# Altium schematic symbol library PLWD_PartLib.SchLib: 10 symbols
Pins are listed as number, name and electrical type; pins without a type are passive.

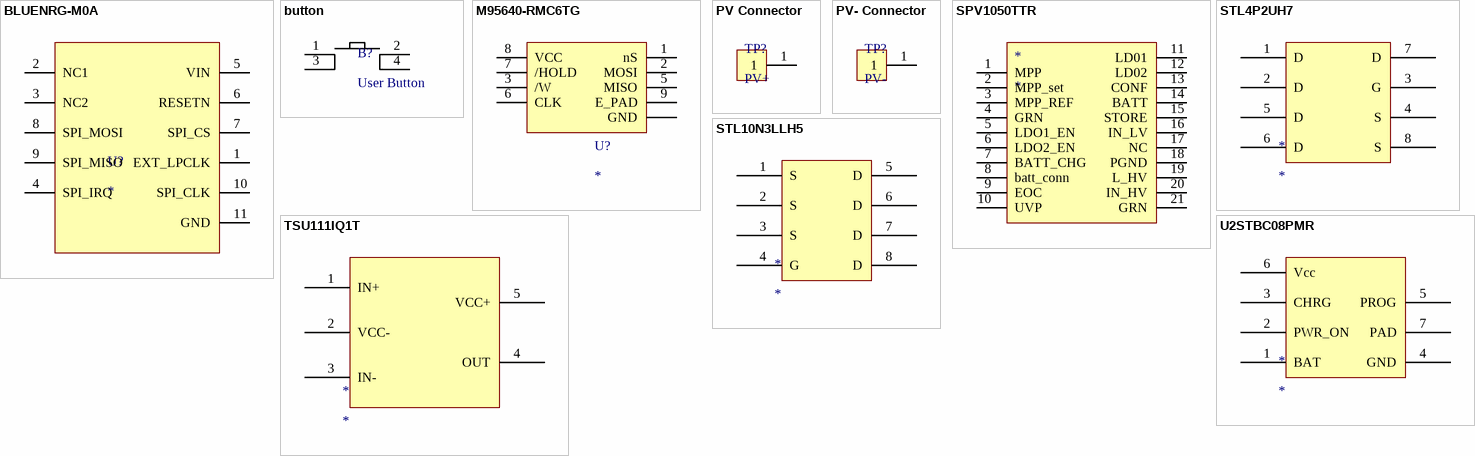
[diagram p0: symbols BLUENRG-M0A to U2STBC08PMR]

## BLUENRG-M0A
designator U?
Very low power network processor module for Bluetooth® low energy v4.2; Manufacturer: STMicroelectronics; Manufacturer Part Number: BLUENRG-M0A; Supplier 1: Digi-Key; RoHS: Yes; Category: RF Receivers, Transceivers; Pricing 1: 1=12.60000, 10=11.54700, 25=10.49720, 100=9.44740, 250=8.66008, 500=8.34996 (USD); RoHS Compliant: Yes; Supplier Part Number 1: 497-BLUENRG-M0ACT-ND
pins: 1 EXT_LPCLK, 2 NC1, 3 NC2, 4 SPI_IRQ, 5 VIN, 6 RESETN, 7 SPI_CS, 8 SPI_MOSI, 9 SPI_MISO, 10 SPI_CLK, 11 GND

## button
designator B?, comment User Button
pins: 1, 2, 3, 4

## M95640-RMC6TG
designator U?
M95640 Series 64 Kb (8K x 8) 5.5 V 20 MHz SMT Serial SPI bus EEPROM - UFDFPN-8; Manufacturer: STMicroelectronics; Manufacturer Part Number: M95640-RMC6TG; Density: 64Kb; Frequency: 20MHz; Interface: SPI,Serial,3-WIRE; Max Supply Voltage: 5.5V; Min Supply Voltage: 1.8V; Nominal Supply Current: 5mA; Access Time: 20ns; Organization: 8KX8; Write Protection: YES; Supplier 1: Digi-Key; RoHS: Yes; Category: EEPROM; Pricing 1: 1=0.54000, 10=0.53100, 25=0.49240, 50=0.49000, 100=0.43510, 250=0.42956, 500=0.42306, 1000=0.41176 (USD); Mount: Surface Mount; Number of Pins: 8; Min Operating Temperature: -40°C; Max Operating Temperature: 85°C; Packaging: Tape and Reel; Memory Type: EEPROM; Package Quantity: 5000; Access Time-Max: 20ns; Supply Current: 5mA; Max Frequency: 20MHz; Series: -; Programming Voltage: 5.5V; Radiation Hardening: No; RoHS Compliant: Yes; Lead Free: Lead Free; ComponentLink1URL: https://datasheet.ciiva.com/1912/cd00258834-1912079.pdf?src-supplier=Digi-Key; ComponentLink1Description: https://datasheet.ciiva.com/1912/cd00258834-1912079.pdf?src-supplier=Digi-Key; ComponentLink2URL: https://datasheet.ciiva.com/26910/getdatasheetpartid-755070-26910586.pdf?src-supplier=Verical; ComponentLink2Description: https://datasheet.ciiva.com/26910/getdatasheetpartid-755070-26910586.pdf?src-supplier=Verical; ComponentLink3URL: https://datasheet.ciiva.com/16622/cd00258834-16622988.pdf?src-supplier=Avnet+Europe; ComponentLink3Description: https://datasheet.ciiva.com/16622/cd00258834-16622988.pdf?src-supplier=Avnet+Europe; Supplier Part Number 1: 497-15780-1-ND
pins: 1 nS, 2 MOSI, 3 /W, 4 GND, 5 MISO, 6 CLK, 7 /HOLD, 8 VCC, 9 E_PAD

## PV Connector
designator TP?, comment PV+
pins: 1

## PV- Connector
designator TP?, comment PV-
pins: 1

## SPV1050TTR
designator *
Ultra low power energy harvester and battery charger with embedded MPPT and LDOs; Manufacturer: STMicroelectronics; Manufacturer Part Number: SPV1050TTR; Max Supply Voltage: 18V; Max Charge Current: 70mA; Battery Pack Voltage: 5.3V; Supplier 1: Digi-Key; RoHS: Yes; Category: Battery Management; Pricing 1: 1=3.91000, 10=3.51000, 25=3.31880, 100=2.87620, 250=2.72872, 500=2.44848, 1000=2.43512 (USD); Number of Pins: 20; Min Operating Temperature: -40°C; Max Operating Temperature: 85°C; Packaging: Tape and Reel; RoHS Compliant: Yes; ComponentLink1URL: http://www.farnell.com/datasheets/2291180.pdf?src-supplier=Farnell; ComponentLink1Description: http://www.farnell.com/datasheets/2291180.pdf?src-supplier=Farnell; ComponentLink2URL: http://www.mouser.com/ds/2/389/spv1050-974147.pdf?src-supplier=Mouser; ComponentLink2Description: http://www.mouser.com/ds/2/389/spv1050-974147.pdf?src-supplier=Mouser; ComponentLink3URL: http://www.st.com/content/ccc/resource/technical/document/datasheet/3e/91/0f/7c/32/3e/46/dd/DM00100984.pdf/files/DM00100984.pdf/jcr:content/translations/en.DM00100984.pdf?src-supplier=Digi-Key; ComponentLink3Description: http://www.st.com/content/ccc/resource/technical/document/datasheet/3e/91/0f/7c/32/3e/46/dd/DM00100984.pdf/files/DM00100984.pdf/jcr:content/translations/en.DM00100984.pdf?src-supplier=Digi-Key; ComponentLink4URL: http://www.st.com/web/en/resource/technical/document/datasheet/DM00100984.pdf?src-supplier=Avnet; ComponentLink4Description: http://www.st.com/web/en/resource/technical/document/datasheet/DM00100984.pdf?src-supplier=Avnet; ComponentLink5URL: http://www.farnell.com/datasheets/2291180.pdf?src-supplier=Newark; ComponentLink5Description: http://www.farnell.com/datasheets/2291180.pdf?src-supplier=Newark; Supplier Part Number 1: 497-15978-1-ND
pins: 1 MPP, 2 MPP_set, 3 MPP_REF, 4 GRN, 5 LDO1_EN, 6 LDO2_EN, 7 BATT_CHG, 8 batt_conn, 9 EOC, 10 UVP, 11 LD01, 12 LD02, 13 CONF, 14 BATT, 15 STORE, 16 IN_LV, 17 NC, 18 PGND, 19 L_HV, 20 IN_HV, 21 GRN

## STL4P2UH7
designator *
P-channel 20 V, 0.087 Ohm typ., 4 A STripFET H7 Power MOSFET in a PowerFLAT 2x2 package; Manufacturer: STMicroelectronics; Manufacturer Part Number: STL4P2UH7; Drain to Source Voltage (Vdss): 20V; Continuous Drain Current (ID): 4A; Rds On Max: 100mR; Input Capacitance: 510pF; Max Power Dissipation: 2.4W; Number of Elements: 1; Gate to Source Voltage (Vgs): 8V; Element Configuration: Single; Fall Time: 19ns; Rise Time: 21ns; Turn-Off Delay Time: 40ns; Turn-On Delay Time: 9ns; Supplier 1: Digi-Key; RoHS: Yes; Category: MOSFETs; Stock 1: 4; Pricing 1: 1=0.46000 (USD); Mount: Surface Mount; Number of Pins: 6; Min Operating Temperature: -55°C; Max Operating Temperature: 150°C; Packaging: Tape and Reel; Power Dissipation: 2.4W; Number of Channels: 1; Drain to Source Breakdown Voltage: 20V; Drain to Source Resistance: 100mR; Package Quantity: 3000; Lead Free: Lead Free; ComponentLink1URL: http://components.arrow.com/part/dataview/66338135S1070583N9185?src-supplier=Arrow+Electronics; ComponentLink1Description: http://components.arrow.com/part/dataview/66338135S1070583N9185?src-supplier=Arrow+Electronics; ComponentLink2URL: http://www.mouser.com/ds/2/389/stl4p2uh7-956091.pdf?src-supplier=Mouser; ComponentLink2Description: http://www.mouser.com/ds/2/389/stl4p2uh7-956091.pdf?src-supplier=Mouser; ComponentLink3URL: http://www.st.com/content/ccc/resource/technical/document/datasheet/group3/56/f4/8b/71/b1/01/42/91/DM00091043/files/DM00091043.pdf/jcr:content/translations/en.DM00091043.pdf?src-supplier=Digi-Key; ComponentLink3Description: http://www.st.com/content/ccc/resource/technical/document/datasheet/group3/56/f4/8b/71/b1/01/42/91/DM00091043/files/DM00091043.pdf/jcr:content/translations/en.DM00091043.pdf?src-supplier=Digi-Key; ComponentLink4URL: http://www.st.com/st-web-ui/static/active/en/resource/technical/document/datasheet/DM00091043.pdf?src-supplier=Avnet; ComponentLink4Description: http://www.st.com/st-web-ui/static/active/en/resource/technical/document/datasheet/DM00091043.pdf?src-supplier=Avnet
pins: 1 D, 2 D, 3 G, 4 S, 5 D, 6 D, 7 D, 8 S

## STL10N3LLH5
designator *
N-channel 30 V, 0.015 Ohm, 9 A, PowerFLAT(TM) 3.3x3.3 STripFET(TM) V Power MOSFET; Manufacturer: STMicroelectronics; Manufacturer Part Number: STL10N3LLH5; Rise Time: 4.2ns; Rds On Max: 19mR; Input Capacitance: 900pF; Continuous Drain Current (ID): 9A; Drain to Source Breakdown Voltage: 30V; Power Dissipation: 50W; Turn-Off Delay Time: 21ns; Fall Time: 3.5ns; Gate to Source Voltage (Vgs): 22V; Turn-On Delay Time: 4ns; Element Configuration: Single; Nominal Vgs: 1V; On-State Resistance: 11.7R; Supplier 1: Mouser; RoHS: Yes; Category: MOSFETs; Stock 1: 399; Pricing 1: 1=0.91000, 10=0.81400, 50=0.81400, 100=0.63500, 1000=0.41400, 10000=0.40100 (USD); Mount: Surface Mount; Number of Pins: 8; Min Operating Temperature: -55°C; Max Operating Temperature: 150°C; Packaging: Tape and Reel; Package Quantity: 1; Drain to Source Resistance: 19mR; Drain to Source Voltage (Vdss): 30V; Max Power Dissipation: 50W; Polarity: N-CHANNEL; Series: STripFET™ V; Threshold Voltage: 1V; Drain-source On Resistance-Max: 11.7R; Radiation Hardening: No; RoHS Compliant: Yes; REACH SVHC: No SVHC; Lead Free: Lead Free; ComponentLink1URL: https://datasheet.ciiva.com/4440/dm00035877-100296-4440615.pdf?src-supplier=Mouser; ComponentLink1Description: https://datasheet.ciiva.com/4440/dm00035877-100296-4440615.pdf?src-supplier=Mouser; ComponentLink2URL: https://datasheet.ciiva.com/16217/dm00035877-16217685.pdf?src-supplier=Future+Electronics; ComponentLink2Description: https://datasheet.ciiva.com/16217/dm00035877-16217685.pdf?src-supplier=Future+Electronics; ComponentLink3URL: https://datasheet.ciiva.com/22692/1722909-22692225.pdf?src-supplier=Element14; ComponentLink3Description: https://datasheet.ciiva.com/22692/1722909-22692225.pdf?src-supplier=Element14; ComponentLink4URL: https://datasheet.ciiva.com/938/dm00035877-938683.pdf?src-supplier=Digi-Key; ComponentLink4Description: https://datasheet.ciiva.com/938/dm00035877-938683.pdf?src-supplier=Digi-Key; ComponentLink5URL: https://datasheet.ciiva.com/6368/dm00035877-6368525.pdf?src-supplier=Digi-Key; ComponentLink5Description: https://datasheet.ciiva.com/6368/dm00035877-6368525.pdf?src-supplier=Digi-Key
pins: 1 S, 2 S, 3 S, 4 G, 5 D, 6 D, 7 D, 8 D

## TSU111IQ1T
designator *
Nanopower (900 nA) high accuracy (150 uV) 5V CMOS Op-Amp, -40 to 85°C, MLPD-6, Tape and Reel; Manufacturer: STMicroelectronics; Manufacturer Part Number: TSU111IQ1T; Number of Circuits: 1; Slew Rate: 0.0027V/µs; Gain Bandwidth Product: 11.5kHz; Input Bias Current: 10pA; Input Offset Voltage (Vos): 150uV; Operating Supply Current: 950nA; Output Current per Channel: 45mA; Supplier 1: Digi-Key; RoHS: Yes; Category: Amplifiers - Op Amps, Buffer, Instrumentation; Stock 1: 1685; Pricing 1: 1=1.91000, 10=1.71600, 25=1.61880, 100=1.37930, 250=1.29512, 500=1.13322, 1000=1.06908 (USD); Mount: Surface Mount; Case/Package: DFN; Number of Pins: 6; Min Operating Temperature: -40°C; Max Operating Temperature: 85°C; Packaging: Cut Tape; RoHS Compliant: Yes; ComponentLink1URL: http://www.st.com/content/ccc/resource/technical/document/datasheet/group3/30/c9/50/18/06/1a/44/8d/DM00329336/files/DM00329336.pdf/jcr:content/translations/en.DM00329336.pdf?src-supplier=Digi-Key; ComponentLink1Description: http://www.st.com/content/ccc/resource/technical/document/datasheet/group3/30/c9/50/18/06/1a/44/8d/DM00329336/files/DM00329336.pdf/jcr:content/translations/en.DM00329336.pdf?src-supplier=Digi-Key
pins: 1 IN+, 2 VCC-, 3 IN-, 4 OUT, 5 VCC+

## U2STBC08PMR
designator *
pins: 1 BAT, 2 PWR_ON, 3 CHRG, 4 GND, 5 PROG, 6 Vcc, 7 PAD